# Altium footprint library Sheye-Connector.PcbLib: 137 footprints (part 7 of 9)
Each footprint in its own frame and in the unit in brackets; x right, y up, seen from the top. Pads: shape width x height; smd on the part's side, far side on the other; paste and mask are expansions set on the pad; w line width, h text height; cw(c..) or ccw(c..) is an arc to the next point about the centre after c.
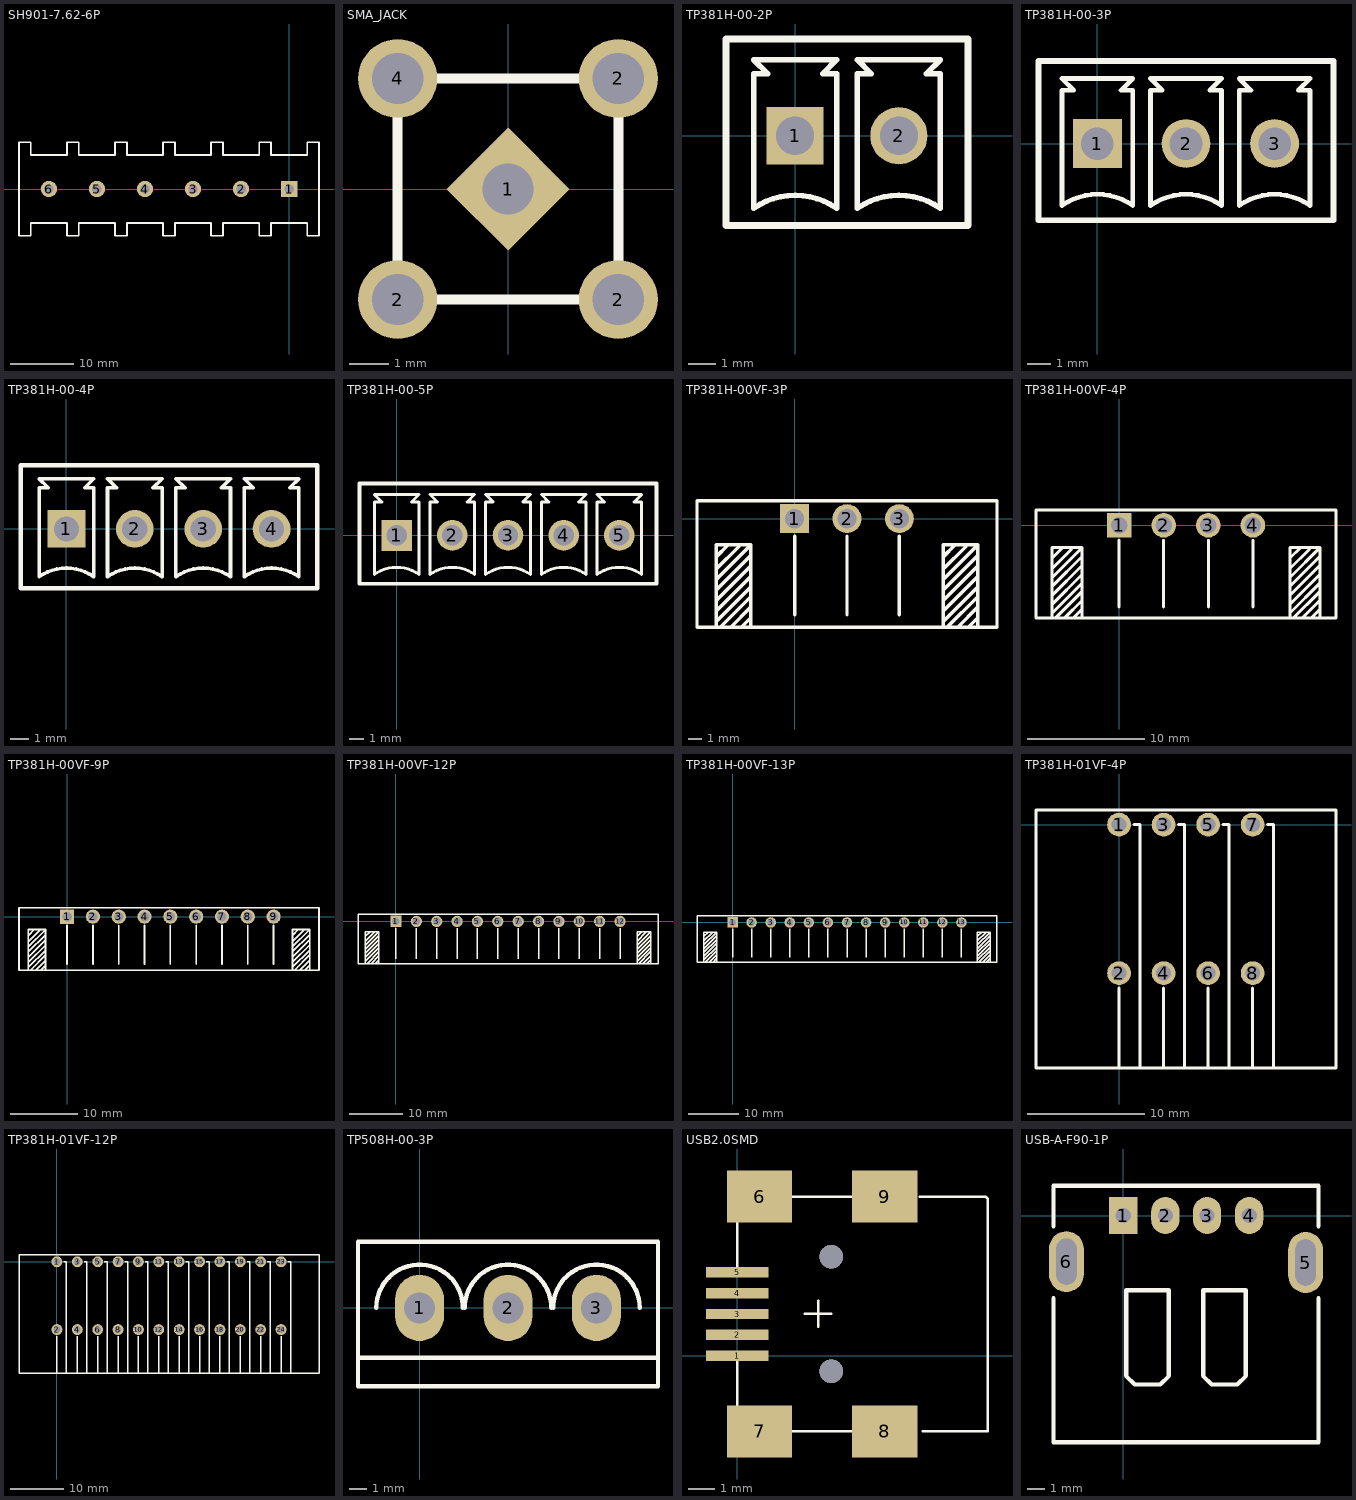
[diagram p6: the footprints below, top view; thin cyan lines are the x and y axes]

## SH901-7.62-6P [mm]
pads (6):
  rect 2.6x2.6 hole 1.5: 1(0,0)
  round 2.6 hole 1.5: 2(-7.62,0) 3(-15.24,0) 4(-22.86,0) 5(-30.48,0) 6(-38.1,0)
Top Overlay:
  lines w0.254: -27.62,-7.4 -27.62,-5.4 -33.34,-5.4 -33.34,-7.4 -35.24,-7.4 -35.24,-5.4 -40.96,-5.4 -40.96,-7.4 -42.85,-7.4 -42.85,7.4 -40.96,7.4 -40.96,5.4 -35.24,5.4 -35.24,7.4 -33.34,7.4 -33.34,5.4 -27.62,5.4 -27.62,7.4 ; -27.61,-7.4 -25.72,-7.4 -25.72,-5.4 -20,-5.4 -20,-7.4 -18.1,-7.4 -18.1,-5.4 -12.38,-5.4 -12.38,-7.4 -10.48,-7.4 -10.48,-5.4 -4.76,-5.4 -4.76,-7.4 -2.86,-7.4 -2.86,-5.4 2.86,-5.4 2.86,-7.4 4.75,-7.4 4.75,7.4 2.86,7.4 2.86,5.4 -2.86,5.4 -2.86,7.4 -4.76,7.4 -4.76,5.4 -10.48,5.4 -10.48,7.4 -12.38,7.4 -12.38,5.4 -18.1,5.4 -18.1,7.4 -20,7.4 -20,5.4 -25.72,5.4 -25.72,7.4 -27.61,7.4
3D body: height 10.5, standoff 8.5, extent -2.54,-3.81 2.159,3.81
3D body: height 10.5, standoff 8.5, extent -10.16,-3.81 -5.461,3.81
3D body: height 10.5, standoff 8.5, extent -17.78,-3.81 -13.081,3.81
3D body: height 10.5, standoff 8.5, extent -25.4,-3.81 -20.701,3.81
3D body: height 8.5, standoff 0.7, extent -42.926,-5.334 4.699,5.461
3D body: height 15, standoff 0, extent -27.686,-7.493 -25.654,7.493
3D body: height 15, standoff 0, extent -20.066,-7.493 -18.034,7.493
3D body: height 15, standoff 0, extent -12.446,-7.493 -10.414,7.493
3D body: height 15, standoff 0, extent -4.826,-7.493 -2.794,7.493
3D body: height 15, standoff 0, extent 2.794,-7.493 4.826,7.493
3D body: height 4, standoff -4, extent -23.241,-0.508 -22.479,0.508
3D body: height 4, standoff -4, extent -15.621,-0.508 -14.859,0.508
3D body: height 4, standoff -4, extent -8.001,-0.508 -7.239,0.508
3D body: height 4, standoff -4, extent -0.381,-0.508 0.381,0.508
3D body: height 4, standoff -4, extent -30.861,-0.508 -30.099,0.508
3D body: height 4, standoff -4, extent -38.481,-0.508 -37.719,0.508
3D body: height 15, standoff 0, extent -35.306,-7.493 -33.274,7.493
3D body: height 15, standoff 0, extent -42.926,-7.493 -40.894,7.493
3D body: height 10.5, standoff 8.5, extent -40.64,-3.81 -35.941,3.81
3D body: height 10.5, standoff 8.5, extent -33.02,-3.81 -28.321,3.81

## SMA_JACK [mm]
pads (5):
  rect 2.2x2.2 hole 1.3 rot 45: 1(0,0)
  round 2 hole 1.3: 2(-2.794,-2.8) 2(2.794,-2.8) 2(2.794,2.8) 4(-2.794,2.8)
Top Overlay:
  lines w0.254: -3.3,-2.8 3.3,-2.8 ; -3.3,2.8 3.3,2.8 ; -2.8,-3.3 -2.8,3.3 ; 2.8,-3.3 2.8,3.3

## TP381H-00-2P [mm]
height 8
pads (2):
  rect 2.1x2.1 hole 1.4: 1(0,0)
  round 2.1 hole 1.4: 2(3.81,0)
Top Overlay:
  lines w0.203: -1.524,-2.667 cw(c0,-4.826) 1.524,-2.667 1.524,2.286 1.016,2.286 1.524,2.794 -1.524,2.794 -1.016,2.286 -1.524,2.286 -1.524,-2.667 ; 2.286,-2.667 cw(c3.81,-4.826) 5.334,-2.667 5.334,2.286 4.826,2.286 5.334,2.794 2.286,2.794 2.794,2.286 2.286,2.286 2.286,-2.667
  lines w0.254: -2.54,-3.302 6.35,-3.302 6.35,3.556 -2.54,3.556 -2.54,-3.302
3D body: height 9.5, standoff -2, extent 3.454,-0.356 4.166,0.356
3D body: height 9.5, standoff -2, extent -0.356,-0.356 0.356,0.356
3D body: height 10, standoff 0, extent -2.54,-3.302 6.35,3.556
3D body: height 1, standoff 0, extent -2.54,-3.302 6.35,3.556

## TP381H-00-3P [mm]
pads (3):
  rect 2.1x2.1 hole 1.4: 1(0,0)
  round 2.1 hole 1.4: 2(3.81,0) 3(7.62,0)
Top Overlay:
  lines w0.203: -1.524,-2.667 cw(c0,-4.826) 1.524,-2.667 1.524,2.286 1.016,2.286 1.524,2.794 -1.524,2.794 -1.016,2.286 -1.524,2.286 -1.524,-2.667 ; 2.286,-2.667 cw(c3.81,-4.826) 5.334,-2.667 5.334,2.286 4.826,2.286 5.334,2.794 2.286,2.794 2.794,2.286 2.286,2.286 2.286,-2.667 ; 6.096,-2.667 cw(c7.62,-4.826) 9.144,-2.667 9.144,2.286 8.636,2.286 9.144,2.794 6.096,2.794 6.604,2.286 6.096,2.286 6.096,-2.667
  lines w0.254: -2.54,-3.302 10.16,-3.302 10.16,3.556 -2.54,3.556 -2.54,-3.302
3D body: height 1, standoff 0, extent -2.54,-3.302 10.16,3.556
3D body: height 10, standoff 0, extent 1.778,-3.302 5.842,3.556
3D body: height 10, standoff 0, extent 5.588,-3.302 10.16,3.556
3D body: height 10, standoff 0, extent -2.54,-3.302 2.032,3.556
3D body: height 9.5, standoff -2, extent -0.356,-0.356 0.356,0.356
3D body: height 9.5, standoff -2, extent 3.454,-0.356 4.166,0.356
3D body: height 9.5, standoff -2, extent 7.264,-0.356 7.976,0.356

## TP381H-00-4P [mm]
pads (4):
  rect 2.1x2.1 hole 1.4: 1(0,0)
  round 2.1 hole 1.4: 2(3.81,0) 3(7.62,0) 4(11.43,0)
Top Overlay:
  lines w0.203: -1.524,-2.667 cw(c0,-4.826) 1.524,-2.667 1.524,2.286 1.016,2.286 1.524,2.794 -1.524,2.794 -1.016,2.286 -1.524,2.286 -1.524,-2.667 ; 2.286,-2.667 cw(c3.81,-4.826) 5.334,-2.667 5.334,2.286 4.826,2.286 5.334,2.794 2.286,2.794 2.794,2.286 2.286,2.286 2.286,-2.667 ; 6.096,-2.667 cw(c7.62,-4.826) 9.144,-2.667 9.144,2.286 8.636,2.286 9.144,2.794 6.096,2.794 6.604,2.286 6.096,2.286 6.096,-2.667 ; 9.906,-2.667 cw(c11.43,-4.826) 12.954,-2.667 12.954,2.286 12.446,2.286 12.954,2.794 9.906,2.794 10.414,2.286 9.906,2.286 9.906,-2.667
  lines w0.254: -2.54,-3.302 13.97,-3.302 13.97,3.556 -2.54,3.556 -2.54,-3.302
3D body: height 1, standoff 0, extent -2.54,-3.302 13.97,3.556
3D body: height 10, standoff 0, extent 9.398,-3.302 13.97,3.556
3D body: height 10, standoff 0, extent -2.54,-3.302 2.032,3.556
3D body: height 10, standoff 0, extent 1.778,-3.302 5.842,3.556
3D body: height 10, standoff 0, extent 5.588,-3.302 9.652,3.556
3D body: height 9.5, standoff -2, extent -0.356,-0.356 0.356,0.356
3D body: height 9.5, standoff -2, extent 3.454,-0.356 4.166,0.356
3D body: height 9.5, standoff -2, extent 7.264,-0.356 7.976,0.356
3D body: height 9.5, standoff -2, extent 11.074,-0.356 11.786,0.356

## TP381H-00-5P [mm]
pads (5):
  rect 2.1x2.1 hole 1.4: 1(0,0)
  round 2.1 hole 1.4: 2(3.81,0) 3(7.62,0) 4(11.43,0) 5(15.24,0)
Top Overlay:
  lines w0.203: -1.524,-2.667 cw(c0,-4.826) 1.524,-2.667 1.524,2.286 1.016,2.286 1.524,2.794 -1.524,2.794 -1.016,2.286 -1.524,2.286 -1.524,-2.667 ; 2.286,-2.667 cw(c3.81,-4.826) 5.334,-2.667 5.334,2.286 4.826,2.286 5.334,2.794 2.286,2.794 2.794,2.286 2.286,2.286 2.286,-2.667 ; 6.096,-2.667 cw(c7.62,-4.826) 9.144,-2.667 9.144,2.286 8.636,2.286 9.144,2.794 6.096,2.794 6.604,2.286 6.096,2.286 6.096,-2.667 ; 9.906,-2.667 cw(c11.43,-4.826) 12.954,-2.667 12.954,2.286 12.446,2.286 12.954,2.794 9.906,2.794 10.414,2.286 9.906,2.286 9.906,-2.667 ; 13.716,-2.667 cw(c15.24,-4.826) 16.764,-2.667 16.764,2.286 16.256,2.286 16.764,2.794 13.716,2.794 14.224,2.286 13.716,2.286 13.716,-2.667
  lines w0.254: -2.54,-3.302 17.78,-3.302 17.78,3.556 -2.54,3.556 -2.54,-3.302
3D body: height 9.5, standoff -2, extent 14.884,-0.356 15.596,0.356
3D body: height 10, standoff 0, extent 9.398,-3.302 13.462,3.556
3D body: height 10, standoff 0, extent 13.208,-3.302 17.78,3.556
3D body: height 1, standoff 0, extent -2.54,-3.302 17.78,3.556
3D body: height 10, standoff 0, extent -2.54,-3.302 2.032,3.556
3D body: height 10, standoff 0, extent 1.778,-3.302 5.842,3.556
3D body: height 10, standoff 0, extent 5.588,-3.302 9.652,3.556
3D body: height 9.5, standoff -2, extent -0.356,-0.356 0.356,0.356
3D body: height 9.5, standoff -2, extent 3.454,-0.356 4.166,0.356
3D body: height 9.5, standoff -2, extent 7.264,-0.356 7.976,0.356
3D body: height 9.5, standoff -2, extent 11.074,-0.356 11.786,0.356

## TP381H-00VF-3P [mm]
pads (3):
  rect 2.1x2.1 hole 1.4: 1(0,0)
  round 2.1 hole 1.4: 2(3.81,0) 3(7.62,0)
Top Overlay:
  lines w0.254: -5.715,-7.875 -5.715,-1.905 -3.175,-1.905 ; -5.715,-7.493 -3.175,-4.953 ; -5.715,-6.731 -3.175,-4.191 ; -5.715,-5.969 -3.175,-3.429 ; -5.715,-5.207 -3.175,-2.667 ; -5.715,-4.445 -3.175,-1.905 ; -5.715,-3.683 -4.064,-2.032 ; -5.715,-2.794 -4.826,-1.905 ; -5.413,-7.898 -3.23,-5.715 ; -4.651,-7.898 -3.175,-6.422 ; -3.889,-7.898 -3.23,-7.239 ; -3.175,-7.9 -3.175,-1.905 ; 0,-6.985 0,-1.27 ; 3.81,-6.985 3.81,-1.27 ; 7.62,-6.985 7.62,-1.27 ; 10.795,-7.9 10.795,-1.905 13.335,-1.905 ; 10.795,-7.493 13.335,-4.953 ; 10.795,-6.731 13.335,-4.191 ; 10.795,-5.969 13.335,-3.429 ; 10.795,-5.207 13.335,-2.667 ; 10.795,-4.445 13.335,-1.905 ; 10.795,-3.683 12.446,-2.032 ; 10.795,-2.794 11.684,-1.905 ; 11.11,-7.885 13.28,-5.715 ; 11.859,-7.898 13.335,-6.422 ; 12.621,-7.898 13.28,-7.239 ; 13.335,-7.9 13.335,-1.905 ; -7.1,-7.9 14.72,-7.9 14.72,1.3 -7.1,1.3 -7.1,-7.9
3D body: height 7, standoff 0, extent -2.692,-7.9 10.312,1.3
3D body: height 5, standoff -2, extent -0.356,-0.356 0.356,0.356
3D body: height 5, standoff -2, extent 3.454,-0.356 4.166,0.356
3D body: height 5, standoff -2, extent 7.264,-0.356 7.976,0.356
3D body: height 6, standoff 0, extent -7.1,-7.9 -2.692,1.3
3D body: height 6, standoff 0, extent 10.312,-7.9 14.72,1.3

## TP381H-00VF-4P [mm]
pads (4):
  rect 2.1x2.1 hole 1.4: 1(0,0)
  round 2.1 hole 1.4: 2(3.81,0) 3(7.62,0) 4(11.43,0)
Top Overlay:
  lines w0.254: -5.715,-7.9 -5.715,-1.905 -3.175,-1.905 ; -5.715,-7.493 -3.175,-4.953 ; -5.715,-6.731 -3.175,-4.191 ; -5.715,-5.969 -3.175,-3.429 ; -5.715,-5.207 -3.175,-2.667 ; -5.715,-4.445 -3.175,-1.905 ; -5.715,-3.683 -4.064,-2.032 ; -5.715,-2.794 -4.826,-1.905 ; -5.413,-7.898 -3.23,-5.715 ; -4.653,-7.9 -3.175,-6.422 ; -3.889,-7.898 -3.23,-7.239 ; -3.175,-7.9 -3.175,-1.905 ; 0,-6.985 0,-1.27 ; 3.81,-6.985 3.81,-1.27 ; 7.62,-6.985 7.62,-1.27 ; 11.43,-6.985 11.43,-1.27 ; 14.605,-7.9 14.605,-1.905 17.145,-1.905 ; 14.605,-7.493 17.145,-4.953 ; 14.605,-6.731 17.145,-4.191 ; 14.605,-5.969 17.145,-3.429 ; 14.605,-5.207 17.145,-2.667 ; 14.605,-4.445 17.145,-1.905 ; 14.605,-3.683 16.256,-2.032 ; 14.605,-2.794 15.494,-1.905 ; 14.907,-7.898 17.09,-5.715 ; 15.669,-7.898 17.145,-6.422 ; 16.431,-7.898 17.09,-7.239 ; 17.145,-7.9 17.145,-1.905 ; -7.1,-7.9 18.53,-7.9 18.53,1.3 -7.1,1.3 -7.1,-7.9
3D body: height 7, standoff 0, extent -2.794,-7.9 14.224,1.321
3D body: height 5, standoff -2, extent -0.356,-0.356 0.356,0.356
3D body: height 5, standoff -2, extent 3.454,-0.356 4.166,0.356
3D body: height 5, standoff -2, extent 7.264,-0.356 7.976,0.356
3D body: height 6, standoff 0, extent -7.1,-7.9 -2.794,1.3
3D body: height 6, standoff 0, extent 14.224,-7.9 18.53,1.3
3D body: height 5, standoff -2, extent 11.074,-0.356 11.786,0.356

## TP381H-00VF-9P [mm]
height 6.9
pads (9):
  rect 2.1x2.1 hole 1.4: 1(0,0)
  round 2.1 hole 1.4: 2(3.81,0) 3(7.62,0) 4(11.43,0) 5(15.24,0) 6(19.05,0) 7(22.86,0) 8(26.67,0) 9(30.48,0)
Top Overlay:
  lines w0.254: -5.715,-7.9 -5.715,-1.905 -3.175,-1.905 ; -5.715,-7.493 -3.175,-4.953 ; -5.715,-6.731 -3.175,-4.191 ; -5.715,-5.969 -3.175,-3.429 ; -5.715,-5.207 -3.175,-2.667 ; -5.715,-4.445 -3.175,-1.905 ; -5.715,-3.683 -4.064,-2.032 ; -5.715,-2.794 -4.826,-1.905 ; -5.413,-7.898 -3.23,-5.715 ; -4.653,-7.9 -3.175,-6.422 ; -3.889,-7.898 -3.23,-7.239 ; -3.175,-7.9 -3.175,-1.905 ; 0,-6.985 0,-1.27 ; 3.81,-6.985 3.81,-1.27 ; 7.62,-6.985 7.62,-1.27 ; 11.43,-6.985 11.43,-1.27 ; 15.24,-6.985 15.24,-1.27 ; 19.05,-6.985 19.05,-1.27 ; 22.86,-6.985 22.86,-1.27 ; 26.67,-6.985 26.67,-1.27 ; 30.48,-6.985 30.48,-1.27 ; 33.255,-7.9 33.255,-1.905 35.795,-1.905 ; 33.255,-7.493 35.795,-4.953 ; 33.255,-6.731 35.795,-4.191 ; 33.255,-5.969 35.795,-3.429 ; 33.255,-5.207 35.795,-2.667 ; 33.255,-4.445 35.795,-1.905 ; 33.255,-3.683 34.906,-2.032 ; 33.255,-2.794 34.144,-1.905 ; 33.557,-7.898 35.74,-5.715 ; 34.319,-7.898 35.795,-6.422 ; 35.081,-7.898 35.74,-7.239 ; 35.795,-7.9 35.795,-1.905 ; -7.1,-7.9 37.18,-7.9 37.18,1.3 -7.1,1.3 -7.1,-7.9
3D body: height 5, standoff -2, extent 30.124,-0.356 30.836,0.356
3D body: height 5, standoff -2, extent 26.314,-0.356 27.026,0.356
3D body: height 5, standoff -2, extent 22.504,-0.356 23.216,0.356
3D body: height 5, standoff -2, extent 18.694,-0.356 19.406,0.356
3D body: height 5, standoff -2, extent 14.884,-0.356 15.596,0.356
3D body: height 7, standoff 0, extent -2.794,-7.9 33.274,1.3
3D body: height 5, standoff -2, extent -0.356,-0.356 0.356,0.356
3D body: height 5, standoff -2, extent 3.454,-0.356 4.166,0.356
3D body: height 5, standoff -2, extent 7.264,-0.356 7.976,0.356
3D body: height 6, standoff 0, extent -7.1,-7.9 -2.794,1.3
3D body: height 6, standoff 0, extent 32.874,-7.902 37.18,1.298
3D body: height 5, standoff -2, extent 11.074,-0.356 11.786,0.356

## TP381H-00VF-12P [mm]
height 6.9
pads (12):
  rect 2.1x2.1 hole 1.4: 1(0,0)
  round 2.1 hole 1.4: 2(3.81,0) 3(7.62,0) 4(11.43,0) 5(15.24,0) 6(19.05,0) 7(22.86,0) 8(26.67,0) 9(30.48,0) 10(34.29,0) 11(38.1,0) 12(41.91,0)
Top Overlay:
  lines w0.254: -5.715,-7.9 -5.715,-1.905 -3.175,-1.905 ; -5.715,-7.493 -3.175,-4.953 ; -5.715,-6.731 -3.175,-4.191 ; -5.715,-5.969 -3.175,-3.429 ; -5.715,-5.207 -3.175,-2.667 ; -5.715,-4.445 -3.175,-1.905 ; -5.715,-3.683 -4.064,-2.032 ; -5.715,-2.794 -4.826,-1.905 ; -5.413,-7.898 -3.23,-5.715 ; -4.653,-7.9 -3.175,-6.422 ; -3.889,-7.898 -3.23,-7.239 ; -3.175,-7.9 -3.175,-1.905 ; 0,-6.985 0,-1.27 ; 3.81,-6.985 3.81,-1.27 ; 7.62,-6.985 7.62,-1.27 ; 11.43,-6.985 11.43,-1.27 ; 15.24,-6.985 15.24,-1.27 ; 19.05,-6.985 19.05,-1.27 ; 22.86,-6.985 22.86,-1.27 ; 26.67,-6.985 26.67,-1.27 ; 30.48,-6.985 30.48,-1.27 ; 34.29,-6.985 34.29,-1.27 ; 38.1,-6.985 38.1,-1.27 ; 41.91,-6.985 41.91,-1.27 ; 45.085,-7.9 45.085,-1.905 47.625,-1.905 ; 45.085,-7.493 47.625,-4.953 ; 45.085,-6.731 47.625,-4.191 ; 45.085,-5.969 47.625,-3.429 ; 45.085,-5.207 47.625,-2.667 ; 45.085,-4.445 47.625,-1.905 ; 45.085,-3.683 46.736,-2.032 ; 45.085,-2.794 45.974,-1.905 ; 45.387,-7.898 47.57,-5.715 ; 46.149,-7.898 47.625,-6.422 ; 46.911,-7.898 47.57,-7.239 ; 47.625,-7.9 47.625,-1.905 ; -7.1,-7.9 -7.1,1.3 49.01,1.3 49.01,-7.9 -7.1,-7.9
3D body: height 5, standoff -2, extent 11.074,-0.356 11.786,0.356
3D body: height 6, standoff 0, extent 44.704,-7.9 49.01,1.3
3D body: height 6, standoff 0, extent -7.1,-7.9 -2.794,1.3
3D body: height 5, standoff -2, extent 7.264,-0.356 7.976,0.356
3D body: height 5, standoff -2, extent 3.454,-0.356 4.166,0.356
3D body: height 5, standoff -2, extent -0.356,-0.356 0.356,0.356
3D body: height 7, standoff 0, extent -2.794,-7.9 44.679,1.3
3D body: height 5, standoff -2, extent 14.884,-0.356 15.596,0.356
3D body: height 5, standoff -2, extent 18.694,-0.356 19.406,0.356
3D body: height 5, standoff -2, extent 22.504,-0.356 23.216,0.356
3D body: height 5, standoff -2, extent 26.314,-0.356 27.026,0.356
3D body: height 5, standoff -2, extent 30.124,-0.356 30.836,0.356
3D body: height 5, standoff -2, extent 33.934,-0.356 34.646,0.356
3D body: height 5, standoff -2, extent 41.554,-0.356 42.266,0.356
3D body: height 5, standoff -2, extent 37.744,-0.356 38.456,0.356

## TP381H-00VF-13P [mm]
height 6.9
pads (13):
  rect 2.1x2.1 hole 1.4: 1(0,0)
  round 2.1 hole 1.4: 2(3.81,0) 3(7.62,0) 4(11.43,0) 5(15.24,0) 6(19.05,0) 7(22.86,0) 8(26.67,0) 9(30.48,0) 10(34.29,0) 11(38.1,0) 12(41.91,0) 13(45.72,0)
Top Overlay:
  lines w0.254: -5.715,-7.9 -5.715,-1.905 -3.175,-1.905 ; -5.715,-7.493 -3.175,-4.953 ; -5.715,-6.731 -3.175,-4.191 ; -5.715,-5.969 -3.175,-3.429 ; -5.715,-5.207 -3.175,-2.667 ; -5.715,-4.445 -3.175,-1.905 ; -5.715,-3.683 -4.064,-2.032 ; -5.715,-2.794 -4.826,-1.905 ; -5.413,-7.898 -3.23,-5.715 ; -4.653,-7.9 -3.175,-6.422 ; -3.889,-7.898 -3.23,-7.239 ; -3.175,-7.9 -3.175,-1.905 ; 0,-6.985 0,-1.27 ; 3.81,-6.985 3.81,-1.27 ; 7.62,-6.985 7.62,-1.27 ; 11.43,-6.985 11.43,-1.27 ; 15.24,-6.985 15.24,-1.27 ; 19.05,-6.985 19.05,-1.27 ; 22.86,-6.985 22.86,-1.27 ; 26.67,-6.985 26.67,-1.27 ; 30.48,-6.985 30.48,-1.27 ; 34.29,-6.985 34.29,-1.27 ; 38.1,-6.985 38.1,-1.27 ; 41.91,-6.985 41.91,-1.27 ; 45.72,-6.985 45.72,-1.27 ; 48.895,-7.9 48.895,-1.905 51.435,-1.905 ; 48.895,-7.493 51.435,-4.953 ; 48.895,-6.731 51.435,-4.191 ; 48.895,-5.969 51.435,-3.429 ; 48.895,-5.207 51.435,-2.667 ; 48.895,-4.445 51.435,-1.905 ; 48.895,-3.683 50.546,-2.032 ; 48.895,-2.794 49.784,-1.905 ; 49.197,-7.898 51.38,-5.715 ; 49.959,-7.898 51.435,-6.422 ; 50.721,-7.898 51.38,-7.239 ; 51.435,-7.9 51.435,-1.905 ; -7.1,-7.9 -7.1,1.3 52.82,1.3 52.82,-7.9 -7.1,-7.9
3D body: height 5, standoff -2, extent 11.074,-0.356 11.786,0.356
3D body: height 6, standoff 0, extent -7.1,-7.9 -2.794,1.3
3D body: height 5, standoff -2, extent 7.264,-0.356 7.976,0.356
3D body: height 5, standoff -2, extent 3.454,-0.356 4.166,0.356
3D body: height 5, standoff -2, extent -0.356,-0.356 0.356,0.356
3D body: height 7, standoff 0, extent -2.794,-7.9 48.514,1.3
3D body: height 5, standoff -2, extent 14.884,-0.356 15.596,0.356
3D body: height 5, standoff -2, extent 18.694,-0.356 19.406,0.356
3D body: height 5, standoff -2, extent 22.504,-0.356 23.216,0.356
3D body: height 5, standoff -2, extent 26.314,-0.356 27.026,0.356
3D body: height 5, standoff -2, extent 30.124,-0.356 30.836,0.356
3D body: height 5, standoff -2, extent 33.934,-0.356 34.646,0.356
3D body: height 5, standoff -2, extent 41.554,-0.356 42.266,0.356
3D body: height 5, standoff -2, extent 37.744,-0.356 38.456,0.356
3D body: height 5, standoff -2, extent 45.364,-0.356 46.076,0.356
3D body: height 6, standoff 0, extent 48.514,-7.9 52.82,1.3

## TP381H-01VF-4P [mil] "TP3.81H-01VF-LOCK"
pads (8):
  round 80 hole 50: 1(0,0) 2(0,-500) 3(150,0) 4(150,-500) 5(300,0) 6(300,-500) 7(450,0) 8(450,-500)
Top Overlay:
  lines w10: 0,-820 0,-550 ; 50,0 70,0 70,-820 ; 150,-820 150,-550 ; 200,0 220,0 220,-820 ; 300,-820 300,-550 ; 350,0 370,0 370,-820 ; 450,-820 450,-550 ; 500,0 520,0 520,-820 ; -279.57,-820 730.43,-820 730.43,50 -279.57,50 -279.57,-820
3D body: height 893.7, standoff 0, extent -280,-820 730,50

## TP381H-01VF-12P [mil] "TP3.81H-01VF-12P-LOCK"
height 893.7
pads (24):
  round 80 hole 50: 1(0,0) 2(0,-500) 3(150,0) 4(150,-500) 5(300,0) 6(300,-500) 7(450,0) 8(450,-500) 9(600,0) 10(600,-500) 11(750,0) 12(750,-500) 13(900,0) 14(900,-500) 15(1050,0) 16(1050,-500) 17(1200,0) 18(1200,-500) 19(1350,0) 20(1350,-500) 21(1500,0) 22(1500,-500) 23(1650,0) 24(1650,-500)
Top Overlay:
  lines w10: 0,-820 0,-550 ; 50,0 70,0 70,-820 ; 150,-820 150,-550 ; 200,0 220,0 220,-820 ; 300,-820 300,-550 ; 350,0 370,0 370,-820 ; 450,-820 450,-550 ; 500,0 520,0 520,-820 ; 600,-820 600,-550 ; 650,0 670,0 670,-820 ; 750,-820 750,-550 ; 800,0 820,0 820,-820 ; 900,-820 900,-550 ; 950,0 970,0 970,-820 ; 1050,-820 1050,-550 ; 1100,0 1120,0 1120,-820 ; 1200,-820 1200,-550 ; 1250,0 1270,0 1270,-820 ; 1350,-820 1350,-550 ; 1400,0 1420,0 1420,-820 ; 1500,-820 1500,-550 ; 1550,0 1570,0 1570,-820 ; 1650,-820 1650,-550 ; 1700,0 1720,0 1720,-820 ; -279.53,-820 -279.53,50 1929.53,50 1929.53,-820 -279.53,-820
3D body: height 893.7, standoff 0, extent -280,-820 1930,50

## TP508H-00-3P [mil]
pads (3):
  oval 110.24x150 hole 70: 1(0,0) 2(200,0) 3(400,0)
Top Overlay:
  lines w10: -139.37,-113 539.37,-113 ; -98,0 cw(c0,0) 98,0 ; 102,0 cw(c200,0) 298,0 ; 302,0 cw(c400,0) 498,0 ; -139.37,-177.17 -139.37,149.61 539.37,149.61 539.37,-177.17 -139.37,-177.17
3D body: height 472.44, standoff 0, extent -140,-177.17 540,149.61
3D body: height 586.61, standoff -153.54, extent -19,-20 20,20
3D body: height 586.61, standoff -153.54, extent 181,-20 220,20
3D body: height 586.61, standoff -153.54, extent 381,-20 420,20
3D body: height 78.74, standoff 0, extent -140,-177.17 540,149.61

## USB2.0SMD [mm]
pads (9):
  rect 2.4x0.4 smd: 1(0,0) 2(0,0.8) 3(0,1.6) 4(0,2.4) 5(0,3.2)
  rect 2.5x2 smd: 6(0.85,6.1) 7(0.85,-2.9) 8(5.65,-2.9) 9(5.65,6.1)
via 3.6,3.8 diameter 0.9 hole 0.9
via 3.6,-0.6 diameter 0.9 hole 0.9
Top Overlay:
  lines w0.1: 0,-2.9 0,-0.2 ; 0,3.4 0,6.1 ; 1.6,-2.9 5.4,-2.9 ; 1.6,6.1 5.4,6.1 ; 2.591,1.605 3.591,1.605 ; 3.091,1.105 3.091,2.105 ; 7,6.1 9.5,6.1 9.6,6 9.6,-2.9 7.1,-2.9

## USB-A-F90-1P [mil] "USB-A卧式插座"
pads (6):
  rect 65x85 hole 35: 1(0,0)
  oval 65x85 hole 35: 2(97,0) 3(193,0) 4(290,0)
  oval 80x140 hole 47.24 slot 106.3 at 90 deg: 5(419.69,-108) 6(-130.69,-106)
Top Overlay:
  lines w10: -160.43,-190.43 -160.43,-521.79 449.43,-521.79 449.43,-190.43 ; -160.43,-24.57 -160.43,68.76 449.43,68.76 449.43,-24.57 ; 85.44,-388.65 26.39,-388.65 6.7,-368.96 6.7,-172.11 105.13,-172.11 105.13,-368.96 85.44,-388.65 ; 85.44,-388.65 85.44,-388.65 ; 183.87,-368.96 183.87,-172.11 282.3,-172.11 282.3,-368.96 262.61,-388.65 203.56,-388.65 183.87,-368.96 ; 183.87,-368.96 183.87,-368.96
3D body: height 334.65, standoff 0, extent -160.43,-521.79 449.43,68.76